# EAGLE library part 2177370 (library collin)
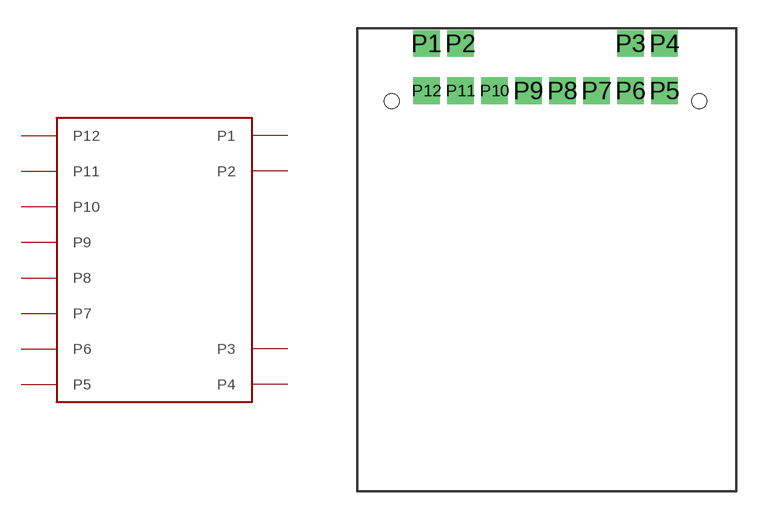
[diagram p10: symbol with the pads of 2177370; footprint 2177370]

Designator prefix -

## 2177370  [2177370]
P1  P1
P2  P2
P3  P3
P4  P4
P5  P5
P6  P6
P7  P7
P8  P8
P9  P9
P10  P10
P11  P11
P12  P12

## Footprint 2177370 (pad centres in mm)
drill 0.9 square: P1 0,2.5; P2 1.8,2.5; P3 10.8,2.5; P4 12.6,2.5; P5 12.6,0; P6 10.8,0; P7 9,0; P8 7.2,0; P9 5.4,0; P10 3.6,0; P11 1.8,0; P12 0,0
hole 0.8 at -1.825,-0.55
hole 0.8 at 14.425,-0.55